# EAGLE library part 505270-2412 (library 505270-2412)
Board to Board & Mezzanine Connectors SlimStack .35MM SSB RP REC 24CKT ARMRNAL Source: Datasheet <https://www.molex.com/molex/products/part-detail/pcb_receptacles/5052702412>
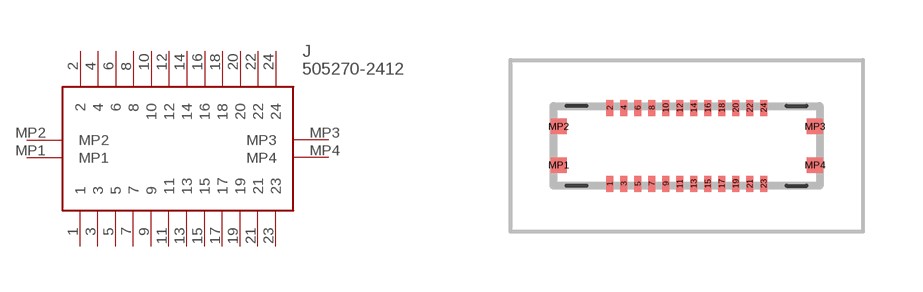
[diagram p0: symbol with the pads of 5052702412; footprint 5052702412]

Designator prefix J

## 505270-2412 (Description: Board to Board & Mezzanine Connectors SlimStack .35MM SSB RP REC 24CKT ARMRNAL; Height: 0.78mm; Manufacturer_Name: Molex; Manufacturer_Part_Number: 505270-2412; Mouser_Part_Number: 538-505270-2412; Mouser_Price-Stock: https://www.mouser.co.uk/ProductDetail/Molex/505270-2412?qs=byeeYqUIh0PIyQ%2FIWytBRA%3D%3D)  [5052702412]
1  1
2  2
3  3
4  4
5  5
6  6
7  7
8  8
9  9
10  10
11  11
12  12
13  13
14  14
15  15
16  16
17  17
18  18
19  19
20  20
21  21
22  22
23  23
24  24
MP1  MP1
MP2  MP2
MP3  MP3
MP4  MP4

## Footprint 5052702412 (pad centres in mm)
505270-2412-3
smd 0.18 x 0.4: 1 -1.925,-0.95; 2 -1.925,0.95; 3 -1.575,-0.95; 4 -1.575,0.95; 5 -1.225,-0.95; 6 -1.225,0.95; 7 -0.875,-0.95; 8 -0.875,0.95; 9 -0.525,-0.95; 10 -0.525,0.95; 11 -0.175,-0.95; 12 -0.175,0.95; 13 0.175,-0.95; 14 0.175,0.95; 15 0.525,-0.95; 16 0.525,0.95; 17 0.875,-0.95; 18 0.875,0.95; 19 1.225,-0.95; 20 1.225,0.95; 21 1.575,-0.95; 22 1.575,0.95; 23 1.925,-0.95; 24 1.925,0.95
smd 0.4 x 0.385: MP1 -3.205,-0.483; MP2 -3.205,0.483; MP3 3.205,0.483; MP4 3.205,-0.483